# Altium schematic symbol library CSD18502KCS.SchLib: 2 symbols
Pins are listed as number, name and electrical type; pins without a type are passive.

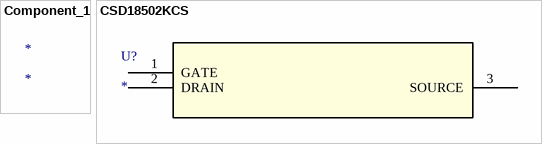
[diagram p0: symbols Component_1 to CSD18502KCS]

## Component_1
designator *

## CSD18502KCS
designator U?
No Description Available; Mfr_Name: Texas Instruments; RefDes: RefDes; Type: Type
footprint KCS3
pins: 1 GATE, 2 DRAIN, 3 SOURCE